# Altium footprint library cap_10001050_smd.PcbLib: 1 footprints
Each footprint in its own frame and in the unit in brackets; x right, y up, seen from the top. Pads: shape width x height; smd on the part's side, far side on the other; paste and mask are expansions set on the pad; w line width, h text height; cw(c..) or ccw(c..) is an arc to the next point about the centre after c.
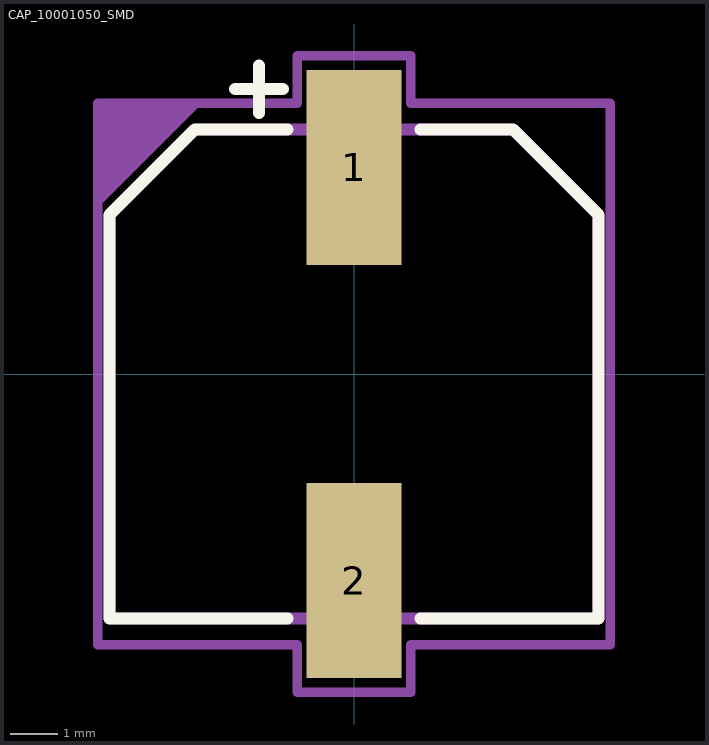
[diagram p0: the footprint, top view; thin cyan lines are the x and y axes]

## CAP_10001050_SMD [mm]
height 10.5
pads (2):
  rect 2x4.1 smd: 1(0,4.35) 2(0,-4.35)
Top Overlay:
  lines w0.25: -5.15,-5.15 -1.4,-5.15 ; -3.35,5.15 -1.4,5.15 ; 1.4,-5.15 5.15,-5.15 ; 1.4,5.15 3.35,5.15
  lines w0.254: -5.15,-5.15 -5.15,3.35 -3.35,5.15 ; -2.5,6 -1.5,6 ; -2,5.5 -2,6.5 ; 3.35,5.15 5.15,3.35 5.15,-5.15
Top 3D Body:
  lines w0.254: -5.15,-5.15 5.15,-5.15 5.15,3.35 3.35,5.15 -3.35,5.15 -5.15,3.35 -5.15,-5.15
Top Courtyard:
  region: -5.4,5.7 -3.2,5.7 -5.4,3.5
  lines w0.2: -5.4,-5.7 -1.2,-5.7 -1.2,-6.7 1.2,-6.7 1.2,-5.7 5.4,-5.7 5.4,5.7 1.2,5.7 1.2,6.7 -1.2,6.7 -1.2,5.7 -5.4,5.7 -5.4,-5.7
Top Designator:
  text ".Designator" at -1.38,-0.18 h0.6
3D body "CAP_10001050_SMD.step": height 10.51, standoff 0.01, extent -5.15,-5.5 5.15,5.5